# Altium footprint library SparkFun-Connectors.PCBLIB: 344 footprints (part 10 of 22)
Each footprint in its own frame and in the unit in brackets; x right, y up, seen from the top. Pads: shape width x height; smd on the part's side, far side on the other; paste and mask are expansions set on the pad; w line width, h text height; cw(c..) or ccw(c..) is an arc to the next point about the centre after c.
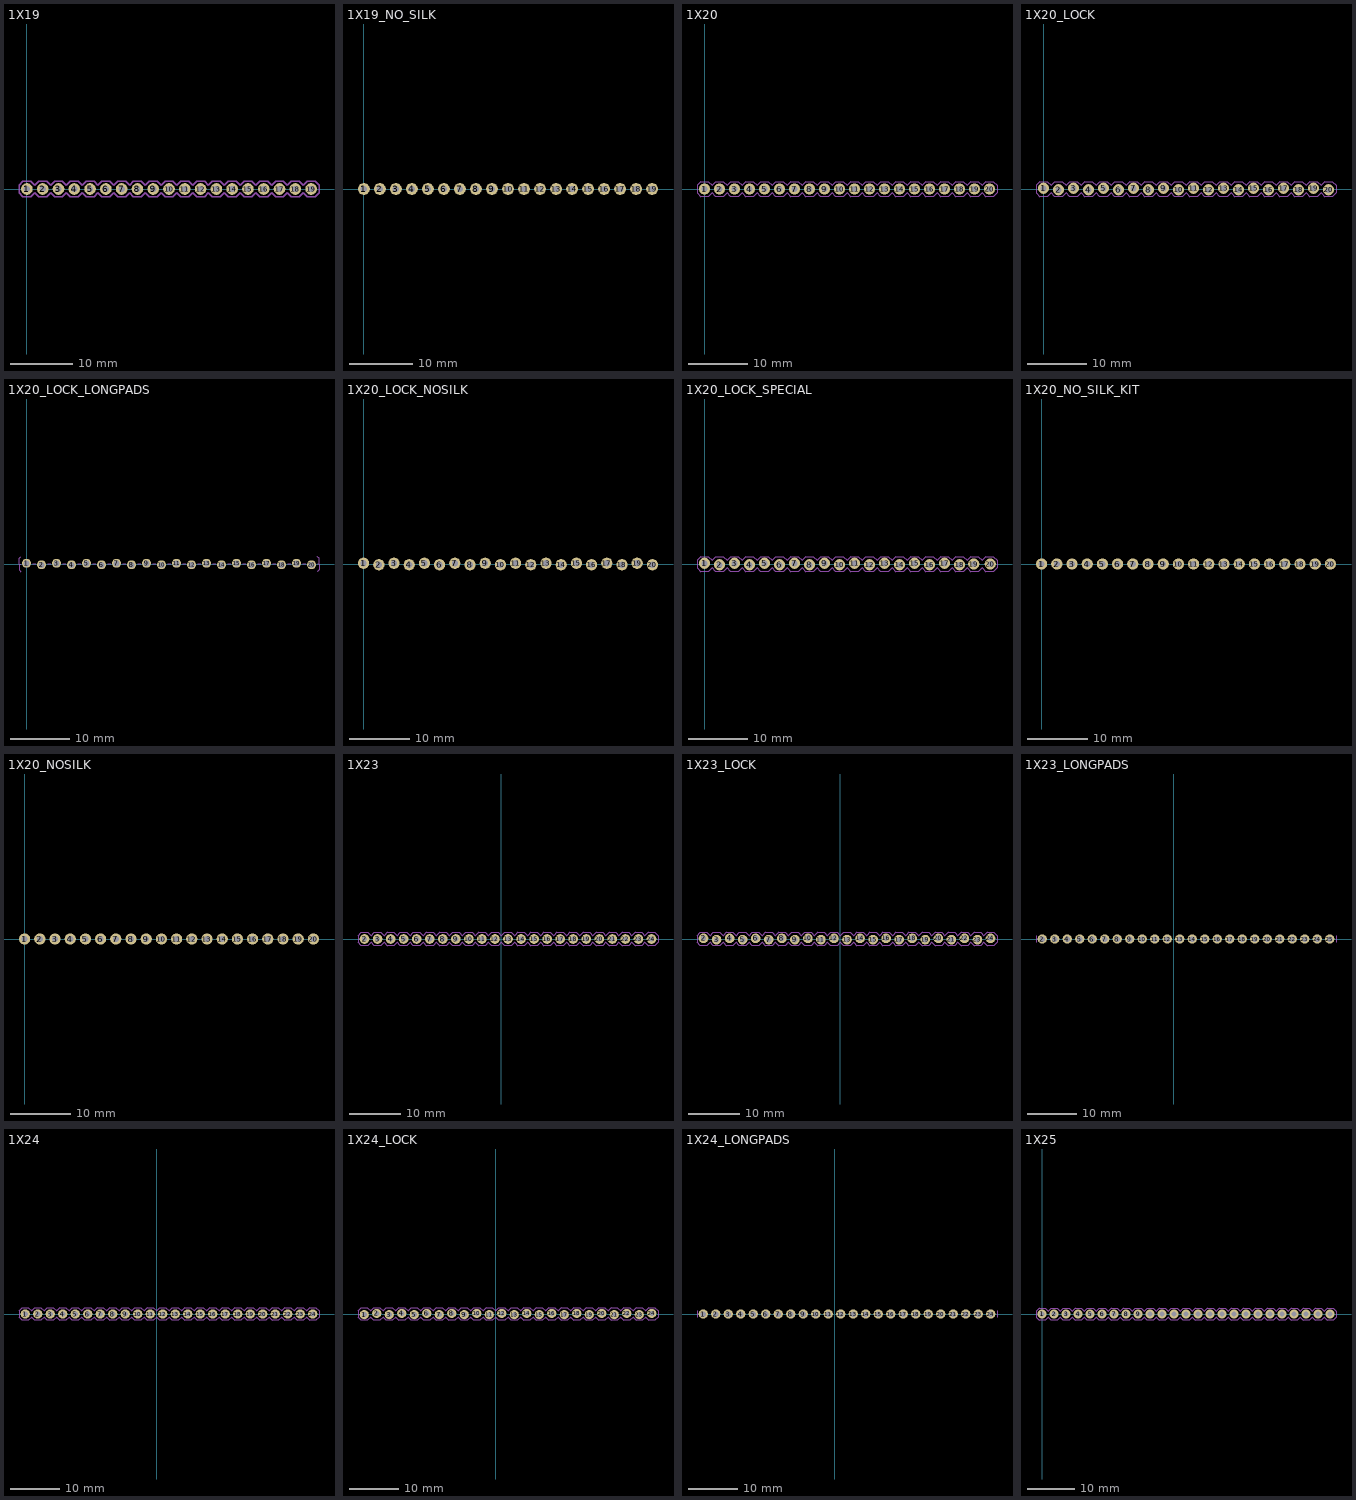
[diagram p9: the footprints below, top view; thin cyan lines are the x and y axes]

## 1X19 [mil]
pads (19):
  round 74 / inner round 60 / far side round 74 hole 40: 1(0,0) 2(100,0) 3(200,0) 4(300,0) 5(400,0) 6(500,0) 7(600,0) 8(700,0) 9(800,0) 10(900,0) 11(1000,0) 12(1100,0) 13(1200,0) 14(1300,0) 15(1400,0) 16(1500,0) 17(1600,0) 18(1700,0) 19(1800,0)
Mechanical 8:
  region: 590,-10 590,10 610,10 610,-10
  region: 490,-10 490,10 510,10 510,-10
  region: 390,-10 390,10 410,10 410,-10
  region: 290,-10 290,10 310,10 310,-10
  region: 190,-10 190,10 210,10 210,-10
  region: 90,-10 90,10 110,10 110,-10
  region: -10,-10 -10,10 10,10 10,-10
  region: 1290,-10 1290,10 1310,10 1310,-10
  region: 1190,-10 1190,10 1210,10 1210,-10
  region: 1090,-10 1090,10 1110,10 1110,-10
  region: 990,-10 990,10 1010,10 1010,-10
  region: 890,-10 890,10 910,10 910,-10
  region: 790,-10 790,10 810,10 810,-10
  region: 690,-10 690,10 710,10 710,-10
  region: 1390,-10 1390,10 1410,10 1410,-10
  region: 1490,-10 1490,10 1510,10 1510,-10
  region: 1590,-10 1590,10 1610,10 1610,-10
  region: 1690,-10 1690,10 1710,10 1710,-10
  region: 1790,-10 1790,10 1810,10 1810,-10
Mechanical 22:
  lines w8: -50,-25 -50,25 -25,50 25,50 50,25 75,50 125,50 150,25 175,50 225,50 250,25 275,50 325,50 350,25 375,50 425,50 450,25 475,50 525,50 550,25 575,50 625,50 650,25 675,50 725,50 750,25 775,50 825,50 850,25 875,50 925,50 950,25 975,50 1025,50 1050,25 1075,50 1125,50 1150,25 1175,50 1225,50 1250,25 1275,50 1325,50 1350,25 1375,50 1425,50 1450,25 1475,50 1525,50 1550,25 1575,50 1625,50 1650,25 1675,50 1725,50 1750,25 1775,50 1825,50 1850,25 1850,-25 1825,-50 1775,-50 1750,-25 1725,-50 1675,-50 1650,-25 1625,-50 1575,-50 1550,-25 1525,-50 1475,-50 1450,-25 1425,-50 1375,-50 1350,-25 1325,-50 1275,-50 1250,-25 1225,-50 1175,-50 1150,-25 1125,-50 1075,-50 1050,-25 1025,-50 975,-50 950,-25 925,-50 875,-50 850,-25 825,-50 775,-50 750,-25 725,-50 675,-50 650,-25 625,-50 575,-50 550,-25 525,-50 475,-50 450,-25 425,-50 375,-50 350,-25 325,-50 275,-50 250,-25 225,-50 175,-50 150,-25 125,-50 75,-50 50,-25 25,-50 -25,-50 -50,-25

## 1X19_NO_SILK [mil]
pads (19):
  round 74 / inner round 60 / far side round 74 hole 40: 1(0,0) 2(100,0) 3(200,0) 4(300,0) 5(400,0) 6(500,0) 7(600,0) 8(700,0) 9(800,0) 10(900,0) 11(1000,0) 12(1100,0) 13(1200,0) 14(1300,0) 15(1400,0) 16(1500,0) 17(1600,0) 18(1700,0) 19(1800,0)
Mechanical 8:
  region: 590,-10 590,10 610,10 610,-10
  region: 490,-10 490,10 510,10 510,-10
  region: 390,-10 390,10 410,10 410,-10
  region: 290,-10 290,10 310,10 310,-10
  region: 190,-10 190,10 210,10 210,-10
  region: 90,-10 90,10 110,10 110,-10
  region: -10,-10 -10,10 10,10 10,-10
  region: 1290,-10 1290,10 1310,10 1310,-10
  region: 1190,-10 1190,10 1210,10 1210,-10
  region: 1090,-10 1090,10 1110,10 1110,-10
  region: 990,-10 990,10 1010,10 1010,-10
  region: 890,-10 890,10 910,10 910,-10
  region: 790,-10 790,10 810,10 810,-10
  region: 690,-10 690,10 710,10 710,-10
  region: 1390,-10 1390,10 1410,10 1410,-10
  region: 1490,-10 1490,10 1510,10 1510,-10
  region: 1590,-10 1590,10 1610,10 1610,-10
  region: 1690,-10 1690,10 1710,10 1710,-10
  region: 1790,-10 1790,10 1810,10 1810,-10

## 1X20 [mil]
pads (20):
  round 74 / inner round 60 / far side round 74 hole 40: 1(0,0) 2(100,0) 3(200,0) 4(300,0) 5(400,0) 6(500,0) 7(600,0) 8(700,0) 9(800,0) 10(900,0) 11(1000,0) 12(1100,0) 13(1200,0) 14(1300,0) 15(1400,0) 16(1500,0) 17(1600,0) 18(1700,0) 19(1800,0) 20(1900,0)
Mechanical 8:
  region: 590,-10 590,10 610,10 610,-10
  region: 490,-10 490,10 510,10 510,-10
  region: 390,-10 390,10 410,10 410,-10
  region: 290,-10 290,10 310,10 310,-10
  region: 190,-10 190,10 210,10 210,-10
  region: 90,-10 90,10 110,10 110,-10
  region: -10,-10 -10,10 10,10 10,-10
  region: 1290,-10 1290,10 1310,10 1310,-10
  region: 1190,-10 1190,10 1210,10 1210,-10
  region: 1090,-10 1090,10 1110,10 1110,-10
  region: 990,-10 990,10 1010,10 1010,-10
  region: 890,-10 890,10 910,10 910,-10
  region: 790,-10 790,10 810,10 810,-10
  region: 690,-10 690,10 710,10 710,-10
  region: 1390,-10 1390,10 1410,10 1410,-10
  region: 1490,-10 1490,10 1510,10 1510,-10
  region: 1590,-10 1590,10 1610,10 1610,-10
  region: 1690,-10 1690,10 1710,10 1710,-10
  region: 1790,-10 1790,10 1810,10 1810,-10
  region: 1890,-10 1890,10 1910,10 1910,-10
Mechanical 22:
  lines w8: -50,-25 -50,25 -25,50 25,50 50,25 75,50 125,50 150,25 175,50 225,50 250,25 275,50 325,50 350,25 375,50 425,50 450,25 475,50 525,50 550,25 575,50 625,50 650,25 675,50 725,50 750,25 775,50 825,50 850,25 875,50 925,50 950,25 975,50 1025,50 1050,25 1075,50 1125,50 1150,25 1175,50 1225,50 1250,25 1275,50 1325,50 1350,25 1375,50 1425,50 1450,25 1475,50 1525,50 1550,25 1575,50 1625,50 1650,25 1675,50 1725,50 1750,25 1775,50 1825,50 1850,25 1875,50 1925,50 1950,25 1950,-25 1925,-50 1875,-50 1850,-25 1825,-50 1775,-50 1750,-25 1725,-50 1675,-50 1650,-25 1625,-50 1575,-50 1550,-25 1525,-50 1475,-50 1450,-25 1425,-50 1375,-50 1350,-25 1325,-50 1275,-50 1250,-25 1225,-50 1175,-50 1150,-25 1125,-50 1075,-50 1050,-25 1025,-50 975,-50 950,-25 925,-50 875,-50 850,-25 825,-50 775,-50 750,-25 725,-50 675,-50 650,-25 625,-50 575,-50 550,-25 525,-50 475,-50 450,-25 425,-50 375,-50 350,-25 325,-50 275,-50 250,-25 225,-50 175,-50 150,-25 125,-50 75,-50 50,-25 25,-50 -25,-50 -50,-25

## 1X20_LOCK [mil]
pads (20):
  round 74 / inner round 60 / far side round 74 hole 40: 1(0,5) 2(100,-5) 3(200,5) 4(300,-5) 5(400,5) 6(500,-5) 7(600,5) 8(700,-5) 9(800,5) 10(900,-5) 11(1000,5) 12(1100,-5) 13(1200,5) 14(1300,-5) 15(1400,5) 16(1500,-5) 17(1600,5) 18(1700,-5) 19(1800,5) 20(1900,-5)
Mechanical 8:
  region: 590,-10 590,10 610,10 610,-10
  region: 490,-10 490,10 510,10 510,-10
  region: 390,-10 390,10 410,10 410,-10
  region: 290,-10 290,10 310,10 310,-10
  region: 190,-10 190,10 210,10 210,-10
  region: 90,-10 90,10 110,10 110,-10
  region: -10,-10 -10,10 10,10 10,-10
  region: 1290,-10 1290,10 1310,10 1310,-10
  region: 1190,-10 1190,10 1210,10 1210,-10
  region: 1090,-10 1090,10 1110,10 1110,-10
  region: 990,-10 990,10 1010,10 1010,-10
  region: 890,-10 890,10 910,10 910,-10
  region: 790,-10 790,10 810,10 810,-10
  region: 690,-10 690,10 710,10 710,-10
  region: 1390,-10 1390,10 1410,10 1410,-10
  region: 1490,-10 1490,10 1510,10 1510,-10
  region: 1590,-10 1590,10 1610,10 1610,-10
  region: 1690,-10 1690,10 1710,10 1710,-10
  region: 1790,-10 1790,10 1810,10 1810,-10
  region: 1890,-10 1890,10 1910,10 1910,-10
Mechanical 22:
  lines w8: -50,-25 -50,25 -25,50 25,50 50,25 75,50 125,50 150,25 175,50 225,50 250,25 275,50 325,50 350,25 375,50 425,50 450,25 475,50 525,50 550,25 575,50 625,50 650,25 675,50 725,50 750,25 775,50 825,50 850,25 875,50 925,50 950,25 975,50 1025,50 1050,25 1075,50 1125,50 1150,25 1175,50 1225,50 1250,25 1275,50 1325,50 1350,25 1375,50 1425,50 1450,25 1475,50 1525,50 1550,25 1575,50 1625,50 1650,25 1675,50 1725,50 1750,25 1775,50 1825,50 1850,25 1875,50 1925,50 1950,25 1950,-25 1925,-50 1875,-50 1850,-25 1825,-50 1775,-50 1750,-25 1725,-50 1675,-50 1650,-25 1625,-50 1575,-50 1550,-25 1525,-50 1475,-50 1450,-25 1425,-50 1375,-50 1350,-25 1325,-50 1275,-50 1250,-25 1225,-50 1175,-50 1150,-25 1125,-50 1075,-50 1050,-25 1025,-50 975,-50 950,-25 925,-50 875,-50 850,-25 825,-50 775,-50 750,-25 725,-50 675,-50 650,-25 625,-50 575,-50 550,-25 525,-50 475,-50 450,-25 425,-50 375,-50 350,-25 325,-50 275,-50 250,-25 225,-50 175,-50 150,-25 125,-50 75,-50 50,-25 25,-50 -25,-50 -50,-25

## 1X20_LOCK_LONGPADS [mil]
pads (20):
  round 60 hole 40: 1(0,5) 2(100,-5) 3(200,5) 4(300,-5) 5(400,5) 6(500,-5) 7(600,5) 8(700,-5) 9(800,5) 10(900,-5) 11(1000,5) 12(1100,-5) 13(1200,5) 14(1300,-5) 15(1400,5) 16(1500,-5) 17(1600,5) 18(1700,-5) 19(1800,5) 20(1900,-5)
Mechanical 8:
  region: -11.5,-11.5 -11.5,11.5 11.5,11.5 11.5,-11.5
  region: 88.5,-11.5 88.5,11.5 111.5,11.5 111.5,-11.5
  region: 188.5,-11.5 188.5,11.5 211.5,11.5 211.5,-11.5
  region: 311.5,-11.5 288.5,-11.5 288.5,11.5 311.5,11.5
  region: 388.5,-11.5 388.5,11.5 411.5,11.5 411.5,-11.5
  region: 488.5,-11.5 488.5,11.5 511.5,11.5 511.5,-11.5
  region: 588.5,-11.5 588.5,11.5 611.5,11.5 611.5,-11.5
  region: 688.5,-11.5 688.5,11.5 711.5,11.5 711.5,-11.5
  region: 788.5,-11.5 788.5,11.5 811.5,11.5 811.5,-11.5
  region: 911.5,-11.5 888.5,-11.5 888.5,11.5 911.5,11.5
  region: 988.5,-11.5 988.5,11.5 1011.5,11.5 1011.5,-11.5
  region: 1088.5,-11.5 1088.5,11.5 1111.5,11.5 1111.5,-11.5
  region: 1188.5,-11.5 1188.5,11.5 1211.5,11.5 1211.5,-11.5
  region: 1288.5,-11.5 1288.5,11.5 1311.5,11.5 1311.5,-11.5
  region: 1388.5,-11.5 1388.5,11.5 1411.5,11.5 1411.5,-11.5
  region: 1511.5,-11.5 1488.5,-11.5 1488.5,11.5 1511.5,11.5
  region: 1588.5,-11.5 1588.5,11.5 1611.5,11.5 1611.5,-11.5
  region: 1688.5,-11.5 1688.5,11.5 1711.5,11.5 1711.5,-11.5
  region: 1788.5,-11.5 1788.5,11.5 1811.5,11.5 1811.5,-11.5
  region: 1888.5,-11.5 1888.5,11.5 1911.5,11.5 1911.5,-11.5
Mechanical 22:
  lines w8: -40,0 -50,0 ; -39,-50 -50,-39 -50,0 ; -39,50 -50,39 -50,0 ; 40,0 60,0 ; 140,0 160,0 ; 240,0 260,0 ; 340,0 360,0 ; 440,0 460,0 ; 540,0 560,0 ; 640,0 660,0 ; 740,0 760,0 ; 840,0 860,0 ; 940,0 960,0 ; 1040,0 1060,0 ; 1140,0 1160,0 ; 1240,0 1260,0 ; 1340,0 1360,0 ; 1440,0 1460,0 ; 1540,0 1560,0 ; 1640,0 1660,0 ; 1740,0 1760,0 ; 1840,0 1860,0 ; 1939,-50 1950,-39 1950,0 ; 1939,50 1950,39 1950,0 ; 1940,0 1950,0

## 1X20_LOCK_NOSILK [mil]
pads (20):
  round 74 / inner round 60 / far side round 74 hole 40: 1(0,5) 2(100,-5) 3(200,5) 4(300,-5) 5(400,5) 6(500,-5) 7(600,5) 8(700,-5) 9(800,5) 10(900,-5) 11(1000,5) 12(1100,-5) 13(1200,5) 14(1300,-5) 15(1400,5) 16(1500,-5) 17(1600,5) 18(1700,-5) 19(1800,5) 20(1900,-5)
Mechanical 8:
  region: 590,-10 590,10 610,10 610,-10
  region: 490,-10 490,10 510,10 510,-10
  region: 390,-10 390,10 410,10 410,-10
  region: 290,-10 290,10 310,10 310,-10
  region: 190,-10 190,10 210,10 210,-10
  region: 90,-10 90,10 110,10 110,-10
  region: -10,-10 -10,10 10,10 10,-10
  region: 1290,-10 1290,10 1310,10 1310,-10
  region: 1190,-10 1190,10 1210,10 1210,-10
  region: 1090,-10 1090,10 1110,10 1110,-10
  region: 990,-10 990,10 1010,10 1010,-10
  region: 890,-10 890,10 910,10 910,-10
  region: 790,-10 790,10 810,10 810,-10
  region: 690,-10 690,10 710,10 710,-10
  region: 1390,-10 1390,10 1410,10 1410,-10
  region: 1490,-10 1490,10 1510,10 1510,-10
  region: 1590,-10 1590,10 1610,10 1610,-10
  region: 1690,-10 1690,10 1710,10 1710,-10
  region: 1790,-10 1790,10 1810,10 1810,-10
  region: 1890,-10 1890,10 1910,10 1910,-10

## 1X20_LOCK_SPECIAL [mil]
pads (20):
  round 74 / inner round 60 / far side round 74 hole 40: 1(0,5) 2(100,-5) 3(200,5) 4(300,-5) 5(400,5) 6(500,-5) 7(600,5) 8(700,-5) 9(800,5) 10(900,-5) 11(1000,5) 12(1100,-5) 13(1200,5) 14(1300,-5) 15(1400,5) 16(1500,-5) 17(1600,5) 18(1700,-5) 19(1795,0) 20(1905,0)
Mechanical 8:
  region: 590,-10 590,10 610,10 610,-10
  region: 490,-10 490,10 510,10 510,-10
  region: 390,-10 390,10 410,10 410,-10
  region: 290,-10 290,10 310,10 310,-10
  region: 190,-10 190,10 210,10 210,-10
  region: 90,-10 90,10 110,10 110,-10
  region: -10,-10 -10,10 10,10 10,-10
  region: 1290,-10 1290,10 1310,10 1310,-10
  region: 1190,-10 1190,10 1210,10 1210,-10
  region: 1090,-10 1090,10 1110,10 1110,-10
  region: 990,-10 990,10 1010,10 1010,-10
  region: 890,-10 890,10 910,10 910,-10
  region: 790,-10 790,10 810,10 810,-10
  region: 690,-10 690,10 710,10 710,-10
  region: 1390,-10 1390,10 1410,10 1410,-10
  region: 1490,-10 1490,10 1510,10 1510,-10
  region: 1590,-10 1590,10 1610,10 1610,-10
  region: 1690,-10 1690,10 1710,10 1710,-10
  region: 1790,-10 1790,10 1810,10 1810,-10
  region: 1890,-10 1890,10 1910,10 1910,-10
Mechanical 22:
  lines w8: -50,-25 -50,25 -25,50 25,50 50,25 75,50 125,50 150,25 175,50 225,50 250,25 275,50 325,50 350,25 375,50 425,50 450,25 475,50 525,50 550,25 575,50 625,50 650,25 675,50 725,50 750,25 775,50 825,50 850,25 875,50 925,50 950,25 975,50 1025,50 1050,25 1075,50 1125,50 1150,25 1175,50 1225,50 1250,25 1275,50 1325,50 1350,25 1375,50 1425,50 1450,25 1475,50 1525,50 1550,25 1575,50 1625,50 1650,25 1675,50 1725,50 1750,25 1775,50 1825,50 1850,25 1875,50 1925,50 1950,25 1950,-25 1925,-50 1875,-50 1850,-25 1825,-50 1775,-50 1750,-25 1725,-50 1675,-50 1650,-25 1625,-50 1575,-50 1550,-25 1525,-50 1475,-50 1450,-25 1425,-50 1375,-50 1350,-25 1325,-50 1275,-50 1250,-25 1225,-50 1175,-50 1150,-25 1125,-50 1075,-50 1050,-25 1025,-50 975,-50 950,-25 925,-50 875,-50 850,-25 825,-50 775,-50 750,-25 725,-50 675,-50 650,-25 625,-50 575,-50 550,-25 525,-50 475,-50 450,-25 425,-50 375,-50 350,-25 325,-50 275,-50 250,-25 225,-50 175,-50 150,-25 125,-50 75,-50 50,-25 25,-50 -25,-50 -50,-25

## 1X20_NO_SILK_KIT [mil]
pads (20):
  round 74 / inner round 60 / far side round 74 hole 40: 1(0,0) 2(100,0) 3(200,0) 4(300,0) 5(400,0) 6(500,0) 7(600,0) 8(700,0) 9(800,0) 10(900,0) 11(1000,0) 12(1100,0) 13(1200,0) 14(1300,0) 15(1400,0) 16(1500,0) 17(1600,0) 18(1700,0) 19(1800,0) 20(1900,0)
Top Solder:
  circle w0: c0,0 r20
  circle w0: c100,0 r20
  circle w0: c200,0 r20
  circle w0: c300,0 r20
  circle w0: c400,0 r20
  circle w0: c500,0 r20
  circle w0: c600,0 r20
  circle w0: c700,0 r20
  circle w0: c800,0 r20
  circle w0: c900,0 r20
  circle w0: c1000,0 r20
  circle w0: c1100,0 r20
  circle w0: c1200,0 r20
  circle w0: c1300,0 r20
  circle w0: c1400,0 r20
  circle w0: c1500,0 r20
  circle w0: c1600,0 r20
  circle w0: c1700,0 r20
  circle w0: c1800,0 r20
  circle w0: c1900,0 r20
Bottom Solder:
  circle w0: c0,0 r37
  circle w0: c100,0 r37
  circle w0: c200,0 r37
  circle w0: c300,0 r37
  circle w0: c400,0 r37
  circle w0: c500,0 r37
  circle w0: c600,0 r37
  circle w0: c700,0 r37
  circle w0: c800,0 r37
  circle w0: c900,0 r37
  circle w0: c1000,0 r37
  circle w0: c1100,0 r37
  circle w0: c1200,0 r37
  circle w0: c1300,0 r37
  circle w0: c1400,0 r37
  circle w0: c1500,0 r37
  circle w0: c1600,0 r37
  circle w0: c1700,0 r37
  circle w0: c1800,0 r37
  circle w0: c1900,0 r37

## 1X20_NOSILK [mil]
pads (20):
  round 74 / inner round 60 / far side round 74 hole 40: 1(0,0) 2(100,0) 3(200,0) 4(300,0) 5(400,0) 6(500,0) 7(600,0) 8(700,0) 9(800,0) 10(900,0) 11(1000,0) 12(1100,0) 13(1200,0) 14(1300,0) 15(1400,0) 16(1500,0) 17(1600,0) 18(1700,0) 19(1800,0) 20(1900,0)
Mechanical 8:
  region: 590,-10 590,10 610,10 610,-10
  region: 490,-10 490,10 510,10 510,-10
  region: 390,-10 390,10 410,10 410,-10
  region: 290,-10 290,10 310,10 310,-10
  region: 190,-10 190,10 210,10 210,-10
  region: 90,-10 90,10 110,10 110,-10
  region: -10,-10 -10,10 10,10 10,-10
  region: 1290,-10 1290,10 1310,10 1310,-10
  region: 1190,-10 1190,10 1210,10 1210,-10
  region: 1090,-10 1090,10 1110,10 1110,-10
  region: 990,-10 990,10 1010,10 1010,-10
  region: 890,-10 890,10 910,10 910,-10
  region: 790,-10 790,10 810,10 810,-10
  region: 690,-10 690,10 710,10 710,-10
  region: 1390,-10 1390,10 1410,10 1410,-10
  region: 1490,-10 1490,10 1510,10 1510,-10
  region: 1590,-10 1590,10 1610,10 1610,-10
  region: 1690,-10 1690,10 1710,10 1710,-10
  region: 1790,-10 1790,10 1810,10 1810,-10
  region: 1890,-10 1890,10 1910,10 1910,-10

## 1X23 [mil]
pads (23):
  round 74 / inner round 60 / far side round 74 hole 40: 2(-1050,0) 3(-950,0) 4(-850,0) 5(-750,0) 6(-650,0) 7(-550,0) 8(-450,0) 9(-350,0) 10(-250,0) 11(-150,0) 12(-50,0) 13(50,0) 14(150,0) 15(250,0) 16(350,0) 17(450,0) 18(550,0) 19(650,0) 20(750,0) 21(850,0) 22(950,0) 23(1050,0) 24(1150,0)
Mechanical 8:
  region: -560,-10 -560,10 -540,10 -540,-10
  region: -660,-10 -660,10 -640,10 -640,-10
  region: -760,-10 -760,10 -740,10 -740,-10
  region: -860,-10 -860,10 -840,10 -840,-10
  region: -960,-10 -960,10 -940,10 -940,-10
  region: -1060,-10 -1060,10 -1040,10 -1040,-10
  region: 140,-10 140,10 160,10 160,-10
  region: 40,-10 40,10 60,10 60,-10
  region: -60,-10 -60,10 -40,10 -40,-10
  region: -160,-10 -160,10 -140,10 -140,-10
  region: -260,-10 -260,10 -240,10 -240,-10
  region: -360,-10 -360,10 -340,10 -340,-10
  region: -460,-10 -460,10 -440,10 -440,-10
  region: 240,-10 240,10 260,10 260,-10
  region: 340,-10 340,10 360,10 360,-10
  region: 440,-10 440,10 460,10 460,-10
  region: 540,-10 540,10 560,10 560,-10
  region: 640,-10 640,10 660,10 660,-10
  region: 740,-10 740,10 760,10 760,-10
  region: 840,-10 840,10 860,10 860,-10
  region: 940,-10 940,10 960,10 960,-10
  region: 1040,-10 1040,10 1060,10 1060,-10
  region: 1140,-10 1140,10 1160,10 1160,-10
Mechanical 22:
  lines w8: -1100,-25 -1075,-50 -1025,-50 -1000,-25 -975,-50 -925,-50 -900,-25 -875,-50 -825,-50 -800,-25 -775,-50 -725,-50 -700,-25 -675,-50 -625,-50 -600,-25 -575,-50 -525,-50 -500,-25 -475,-50 -425,-50 -400,-25 -375,-50 -325,-50 -300,-25 -275,-50 -225,-50 -200,-25 -175,-50 -125,-50 -100,-25 -75,-50 -25,-50 0,-25 25,-50 75,-50 100,-25 125,-50 175,-50 200,-25 225,-50 275,-50 300,-25 325,-50 375,-50 400,-25 425,-50 475,-50 500,-25 525,-50 575,-50 600,-25 625,-50 675,-50 700,-25 725,-50 775,-50 800,-25 825,-50 875,-50 900,-25 925,-50 975,-50 1000,-25 1025,-50 1075,-50 1100,-25 1125,-50 1175,-50 1200,-25 1200,25 1175,50 1125,50 1100,25 1075,50 1025,50 1000,25 975,50 925,50 900,25 875,50 825,50 800,25 775,50 725,50 700,25 675,50 625,50 600,25 575,50 525,50 500,25 475,50 425,50 400,25 375,50 325,50 300,25 275,50 225,50 200,25 175,50 125,50 100,25 75,50 25,50 0,25 -25,50 -75,50 -100,25 -125,50 -175,50 -200,25 -225,50 -275,50 -300,25 -325,50 -375,50 -400,25 -425,50 -475,50 -500,25 -525,50 -575,50 -600,25 -625,50 -675,50 -700,25 -725,50 -775,50 -800,25 -825,50 -875,50 -900,25 -925,50 -975,50 -1000,25 -1025,50 -1075,50 -1100,25 -1100,-25

## 1X23_LOCK [mil]
pads (23):
  round 74 / inner round 60 / far side round 74 hole 40: 2(-1050,5) 3(-950,-5) 4(-850,5) 5(-750,-5) 6(-650,5) 7(-550,-5) 8(-450,5) 9(-350,-5) 10(-250,5) 11(-150,-5) 12(-50,5) 13(50,-5) 14(150,5) 15(250,-5) 16(350,5) 17(450,-5) 18(550,5) 19(650,-5) 20(750,5) 21(850,-5) 22(950,5) 23(1050,-5) 24(1150,5)
Mechanical 8:
  region: -560,-10 -560,10 -540,10 -540,-10
  region: -660,-10 -660,10 -640,10 -640,-10
  region: -760,-10 -760,10 -740,10 -740,-10
  region: -860,-10 -860,10 -840,10 -840,-10
  region: -960,-10 -960,10 -940,10 -940,-10
  region: -1060,-10 -1060,10 -1040,10 -1040,-10
  region: 140,-10 140,10 160,10 160,-10
  region: 40,-10 40,10 60,10 60,-10
  region: -60,-10 -60,10 -40,10 -40,-10
  region: -160,-10 -160,10 -140,10 -140,-10
  region: -260,-10 -260,10 -240,10 -240,-10
  region: -360,-10 -360,10 -340,10 -340,-10
  region: -460,-10 -460,10 -440,10 -440,-10
  region: 240,-10 240,10 260,10 260,-10
  region: 340,-10 340,10 360,10 360,-10
  region: 440,-10 440,10 460,10 460,-10
  region: 540,-10 540,10 560,10 560,-10
  region: 640,-10 640,10 660,10 660,-10
  region: 740,-10 740,10 760,10 760,-10
  region: 840,-10 840,10 860,10 860,-10
  region: 940,-10 940,10 960,10 960,-10
  region: 1040,-10 1040,10 1060,10 1060,-10
  region: 1140,-10 1140,10 1160,10 1160,-10
Mechanical 22:
  lines w8: -1100,-25 -1075,-50 -1025,-50 -1000,-25 -975,-50 -925,-50 -900,-25 -875,-50 -825,-50 -800,-25 -775,-50 -725,-50 -700,-25 -675,-50 -625,-50 -600,-25 -575,-50 -525,-50 -500,-25 -475,-50 -425,-50 -400,-25 -375,-50 -325,-50 -300,-25 -275,-50 -225,-50 -200,-25 -175,-50 -125,-50 -100,-25 -75,-50 -25,-50 0,-25 25,-50 75,-50 100,-25 125,-50 175,-50 200,-25 225,-50 275,-50 300,-25 325,-50 375,-50 400,-25 425,-50 475,-50 500,-25 525,-50 575,-50 600,-25 625,-50 675,-50 700,-25 725,-50 775,-50 800,-25 825,-50 875,-50 900,-25 925,-50 975,-50 1000,-25 1025,-50 1075,-50 1100,-25 1125,-50 1175,-50 1200,-25 1200,25 1175,50 1125,50 1100,25 1075,50 1025,50 1000,25 975,50 925,50 900,25 875,50 825,50 800,25 775,50 725,50 700,25 675,50 625,50 600,25 575,50 525,50 500,25 475,50 425,50 400,25 375,50 325,50 300,25 275,50 225,50 200,25 175,50 125,50 100,25 75,50 25,50 0,25 -25,50 -75,50 -100,25 -125,50 -175,50 -200,25 -225,50 -275,50 -300,25 -325,50 -375,50 -400,25 -425,50 -475,50 -500,25 -525,50 -575,50 -600,25 -625,50 -675,50 -700,25 -725,50 -775,50 -800,25 -825,50 -875,50 -900,25 -925,50 -975,50 -1000,25 -1025,50 -1075,50 -1100,25 -1100,-25

## 1X23_LONGPADS [mil]
pads (24):
  round 74 / inner round 60 / far side round 74 hole 44: 2(-1050,0) 3(-950,0) 4(-850,0) 5(-750,0) 6(-650,0) 7(-550,0) 8(-450,0) 9(-350,0) 10(-250,0) 11(-150,0) 12(-50,0) 13(50,0) 14(150,0) 15(250,0) 16(350,0) 17(450,0) 18(550,0) 19(650,0) 20(750,0) 21(850,0) 22(950,0) 23(1050,0) 24(1150,0) 25(1250,0)
Mechanical 8:
  region: -560,-10 -560,10 -540,10 -540,-10
  region: -660,-10 -660,10 -640,10 -640,-10
  region: -760,-10 -760,10 -740,10 -740,-10
  region: -860,-10 -860,10 -840,10 -840,-10
  region: -960,-10 -960,10 -940,10 -940,-10
  region: -1060,-10 -1060,10 -1040,10 -1040,-10
  region: 140,-10 140,10 160,10 160,-10
  region: 40,-10 40,10 60,10 60,-10
  region: -60,-10 -60,10 -40,10 -40,-10
  region: -160,-10 -160,10 -140,10 -140,-10
  region: -260,-10 -260,10 -240,10 -240,-10
  region: -360,-10 -360,10 -340,10 -340,-10
  region: -460,-10 -460,10 -440,10 -440,-10
  region: 240,-10 240,10 260,10 260,-10
  region: 340,-10 340,10 360,10 360,-10
  region: 440,-10 440,10 460,10 460,-10
  region: 540,-10 540,10 560,10 560,-10
  region: 640,-10 640,10 660,10 660,-10
  region: 740,-10 740,10 760,10 760,-10
  region: 840,-10 840,10 860,10 860,-10
  region: 940,-10 940,10 960,10 960,-10
  region: 1040,-10 1040,10 1060,10 1060,-10
  region: 1140,-10 1140,10 1160,10 1160,-10
  region: 1240,-10 1240,10 1260,10 1260,-10
Mechanical 22:
  lines w8: -1100,-25 -1100,25 ; 1300,-25 1300,25

## 1X24 [mil]
pads (24):
  round 74 / inner round 60 / far side round 74 hole 40: 1(-1050,0) 2(-950,0) 3(-850,0) 4(-750,0) 5(-650,0) 6(-550,0) 7(-450,0) 8(-350,0) 9(-250,0) 10(-150,0) 11(-50,0) 12(50,0) 13(150,0) 14(250,0) 15(350,0) 16(450,0) 17(550,0) 18(650,0) 19(750,0) 20(850,0) 21(950,0) 22(1050,0) 23(1150,0) 24(1250,0)
Mechanical 8:
  region: -460,-10 -460,10 -440,10 -440,-10
  region: -560,-10 -560,10 -540,10 -540,-10
  region: -660,-10 -660,10 -640,10 -640,-10
  region: -760,-10 -760,10 -740,10 -740,-10
  region: -860,-10 -860,10 -840,10 -840,-10
  region: -960,-10 -960,10 -940,10 -940,-10
  region: 240,-10 240,10 260,10 260,-10
  region: 140,-10 140,10 160,10 160,-10
  region: 40,-10 40,10 60,10 60,-10
  region: -60,-10 -60,10 -40,10 -40,-10
  region: -160,-10 -160,10 -140,10 -140,-10
  region: -260,-10 -260,10 -240,10 -240,-10
  region: -360,-10 -360,10 -340,10 -340,-10
  region: 340,-10 340,10 360,10 360,-10
  region: 440,-10 440,10 460,10 460,-10
  region: 540,-10 540,10 560,10 560,-10
  region: 640,-10 640,10 660,10 660,-10
  region: 740,-10 740,10 760,10 760,-10
  region: 840,-10 840,10 860,10 860,-10
  region: 940,-10 940,10 960,10 960,-10
  region: 1040,-10 1040,10 1060,10 1060,-10
  region: 1140,-10 1140,10 1160,10 1160,-10
  region: 1240,-10 1240,10 1260,10 1260,-10
  region: -940,10 -940,-10 -960,-10 -960,10
  region: -1040,10 -1040,-10 -1060,-10 -1060,10
Mechanical 22:
  lines w8: -1100,-25 -1100,25 -1075,50 -1025,50 -1000,25 -975,50 -925,50 -900,25 -875,50 -825,50 -800,25 -775,50 -725,50 -700,25 -675,50 -625,50 -600,25 -575,50 -525,50 -500,25 -475,50 -425,50 -400,25 -375,50 -325,50 -300,25 -275,50 -225,50 -200,25 -175,50 -125,50 -100,25 -75,50 -25,50 0,25 25,50 75,50 100,25 125,50 175,50 200,25 225,50 275,50 300,25 325,50 375,50 400,25 425,50 475,50 500,25 525,50 575,50 600,25 625,50 675,50 700,25 725,50 775,50 800,25 825,50 875,50 900,25 925,50 975,50 1000,25 1025,50 1075,50 1100,25 1125,50 1175,50 1200,25 1225,50 1275,50 1300,25 1300,-25 1275,-50 1225,-50 1200,-25 1175,-50 1125,-50 1100,-25 1075,-50 1025,-50 1000,-25 975,-50 925,-50 900,-25 875,-50 825,-50 800,-25 775,-50 725,-50 700,-25 675,-50 625,-50 600,-25 575,-50 525,-50 500,-25 475,-50 425,-50 400,-25 375,-50 325,-50 300,-25 275,-50 225,-50 200,-25 175,-50 125,-50 100,-25 75,-50 25,-50 0,-25 -25,-50 -75,-50 -100,-25 -125,-50 -175,-50 -200,-25 -225,-50 -275,-50 -300,-25 -325,-50 -375,-50 -400,-25 -425,-50 -475,-50 -500,-25 -525,-50 -575,-50 -600,-25 -625,-50 -675,-50 -700,-25 -725,-50 -775,-50 -800,-25 -825,-50 -875,-50 -900,-25 -925,-50 -975,-50 -1000,-25 -1025,-50 -1075,-50 -1100,-25

## 1X24_LOCK [mil]
pads (24):
  round 74 / inner round 60 / far side round 74 hole 40: 1(-1050,-5) 2(-950,5) 3(-850,-5) 4(-750,5) 5(-650,-5) 6(-550,5) 7(-450,-5) 8(-350,5) 9(-250,-5) 10(-150,5) 11(-50,-5) 12(50,5) 13(150,-5) 14(250,5) 15(350,-5) 16(450,5) 17(550,-5) 18(650,5) 19(750,-5) 20(850,5) 21(950,-5) 22(1050,5) 23(1150,-5) 24(1250,5)
Mechanical 8:
  region: -460,-10 -460,10 -440,10 -440,-10
  region: -560,-10 -560,10 -540,10 -540,-10
  region: -660,-10 -660,10 -640,10 -640,-10
  region: -760,-10 -760,10 -740,10 -740,-10
  region: -860,-10 -860,10 -840,10 -840,-10
  region: -960,-10 -960,10 -940,10 -940,-10
  region: 240,-10 240,10 260,10 260,-10
  region: 140,-10 140,10 160,10 160,-10
  region: 40,-10 40,10 60,10 60,-10
  region: -60,-10 -60,10 -40,10 -40,-10
  region: -160,-10 -160,10 -140,10 -140,-10
  region: -260,-10 -260,10 -240,10 -240,-10
  region: -360,-10 -360,10 -340,10 -340,-10
  region: 340,-10 340,10 360,10 360,-10
  region: 440,-10 440,10 460,10 460,-10
  region: 540,-10 540,10 560,10 560,-10
  region: 640,-10 640,10 660,10 660,-10
  region: 740,-10 740,10 760,10 760,-10
  region: 840,-10 840,10 860,10 860,-10
  region: 940,-10 940,10 960,10 960,-10
  region: 1040,-10 1040,10 1060,10 1060,-10
  region: 1140,-10 1140,10 1160,10 1160,-10
  region: 1240,-10 1240,10 1260,10 1260,-10
  region: -1060,-10 -1060,10 -1040,10 -1040,-10
Mechanical 22:
  lines w8: -1100,-25 -1100,25 -1075,50 -1025,50 -1000,25 -975,50 -925,50 -900,25 -875,50 -825,50 -800,25 -775,50 -725,50 -700,25 -675,50 -625,50 -600,25 -575,50 -525,50 -500,25 -475,50 -425,50 -400,25 -375,50 -325,50 -300,25 -275,50 -225,50 -200,25 -175,50 -125,50 -100,25 -75,50 -25,50 0,25 25,50 75,50 100,25 125,50 175,50 200,25 225,50 275,50 300,25 325,50 375,50 400,25 425,50 475,50 500,25 525,50 575,50 600,25 625,50 675,50 700,25 725,50 775,50 800,25 825,50 875,50 900,25 925,50 975,50 1000,25 1025,50 1075,50 1100,25 1125,50 1175,50 1200,25 1225,50 1275,50 1300,25 1300,-25 1275,-50 1225,-50 1200,-25 1175,-50 1125,-50 1100,-25 1075,-50 1025,-50 1000,-25 975,-50 925,-50 900,-25 875,-50 825,-50 800,-25 775,-50 725,-50 700,-25 675,-50 625,-50 600,-25 575,-50 525,-50 500,-25 475,-50 425,-50 400,-25 375,-50 325,-50 300,-25 275,-50 225,-50 200,-25 175,-50 125,-50 100,-25 75,-50 25,-50 0,-25 -25,-50 -75,-50 -100,-25 -125,-50 -175,-50 -200,-25 -225,-50 -275,-50 -300,-25 -325,-50 -375,-50 -400,-25 -425,-50 -475,-50 -500,-25 -525,-50 -575,-50 -600,-25 -625,-50 -675,-50 -700,-25 -725,-50 -775,-50 -800,-25 -825,-50 -875,-50 -900,-25 -925,-50 -975,-50 -1000,-25 -1025,-50 -1075,-50 -1100,-25

## 1X24_LONGPADS [mil]
pads (24):
  round 74 / inner round 60 / far side round 74 hole 44: 1(-1050,0) 2(-950,0) 3(-850,0) 4(-750,0) 5(-650,0) 6(-550,0) 7(-450,0) 8(-350,0) 9(-250,0) 10(-150,0) 11(-50,0) 12(50,0) 13(150,0) 14(250,0) 15(350,0) 16(450,0) 17(550,0) 18(650,0) 19(750,0) 20(850,0) 21(950,0) 22(1050,0) 23(1150,0) 24(1250,0)
Mechanical 8:
  region: -460,-10 -460,10 -440,10 -440,-10
  region: -560,-10 -560,10 -540,10 -540,-10
  region: -660,-10 -660,10 -640,10 -640,-10
  region: -760,-10 -760,10 -740,10 -740,-10
  region: -860,-10 -860,10 -840,10 -840,-10
  region: -960,-10 -960,10 -940,10 -940,-10
  region: 240,-10 240,10 260,10 260,-10
  region: 140,-10 140,10 160,10 160,-10
  region: 40,-10 40,10 60,10 60,-10
  region: -60,-10 -60,10 -40,10 -40,-10
  region: -160,-10 -160,10 -140,10 -140,-10
  region: -260,-10 -260,10 -240,10 -240,-10
  region: -360,-10 -360,10 -340,10 -340,-10
  region: 340,-10 340,10 360,10 360,-10
  region: 440,-10 440,10 460,10 460,-10
  region: 540,-10 540,10 560,10 560,-10
  region: 640,-10 640,10 660,10 660,-10
  region: 740,-10 740,10 760,10 760,-10
  region: 840,-10 840,10 860,10 860,-10
  region: 940,-10 940,10 960,10 960,-10
  region: 1040,-10 1040,10 1060,10 1060,-10
  region: 1140,-10 1140,10 1160,10 1160,-10
  region: 1240,-10 1240,10 1260,10 1260,-10
  region: -1060,-10 -1060,10 -1040,10 -1040,-10
Mechanical 22:
  lines w8: -1100,-25 -1100,25 ; 1300,-25 1300,25

## 1X25 [mil]
pads (25):
  round 74 / inner round 60 / far side round 74 hole 40: 1(0,0) 2(100,0) 3(200,0) 4(300,0) 5(400,0) 6(500,0) 7(600,0) 8(700,0) 9(800,0) 10(900,0) 11(1000,0) 12(1100,0) 13(1200,0) 14(1300,0) 15(1400,0) 16(1500,0) 17(1600,0) 18(1700,0) 19(1800,0) 20(1900,0) 21(2000,0) 22(2100,0) 23(2200,0) 24(2300,0) 25(2400,0)
Mechanical 8:
  region: 590,-10 590,10 610,10 610,-10
  region: 490,-10 490,10 510,10 510,-10
  region: 390,-10 390,10 410,10 410,-10
  region: 290,-10 290,10 310,10 310,-10
  region: 190,-10 190,10 210,10 210,-10
  region: 90,-10 90,10 110,10 110,-10
  region: -10,-10 -10,10 10,10 10,-10
  region: 1290,-10 1290,10 1310,10 1310,-10
  region: 1190,-10 1190,10 1210,10 1210,-10
  region: 1090,-10 1090,10 1110,10 1110,-10
  region: 990,-10 990,10 1010,10 1010,-10
  region: 890,-10 890,10 910,10 910,-10
  region: 790,-10 790,10 810,10 810,-10
  region: 690,-10 690,10 710,10 710,-10
  region: 1390,-10 1390,10 1410,10 1410,-10
  region: 1490,-10 1490,10 1510,10 1510,-10
  region: 1590,-10 1590,10 1610,10 1610,-10
  region: 1690,-10 1690,10 1710,10 1710,-10
  region: 1790,-10 1790,10 1810,10 1810,-10
  region: 1890,-10 1890,10 1910,10 1910,-10
  region: 1990,-10 1990,10 2010,10 2010,-10
  region: 2090,-10 2090,10 2110,10 2110,-10
  region: 2190,-10 2190,10 2210,10 2210,-10
  region: 2290,-10 2290,10 2310,10 2310,-10
  region: 2390,-10 2390,10 2410,10 2410,-10
Mechanical 22:
  drawing of 152 lines, arcs and shapes, not listed